# Altium schematic symbol library kmilo17pet-LT_OpAmp_LT2000.SchLib: 1710 symbols (part 47 of 75)
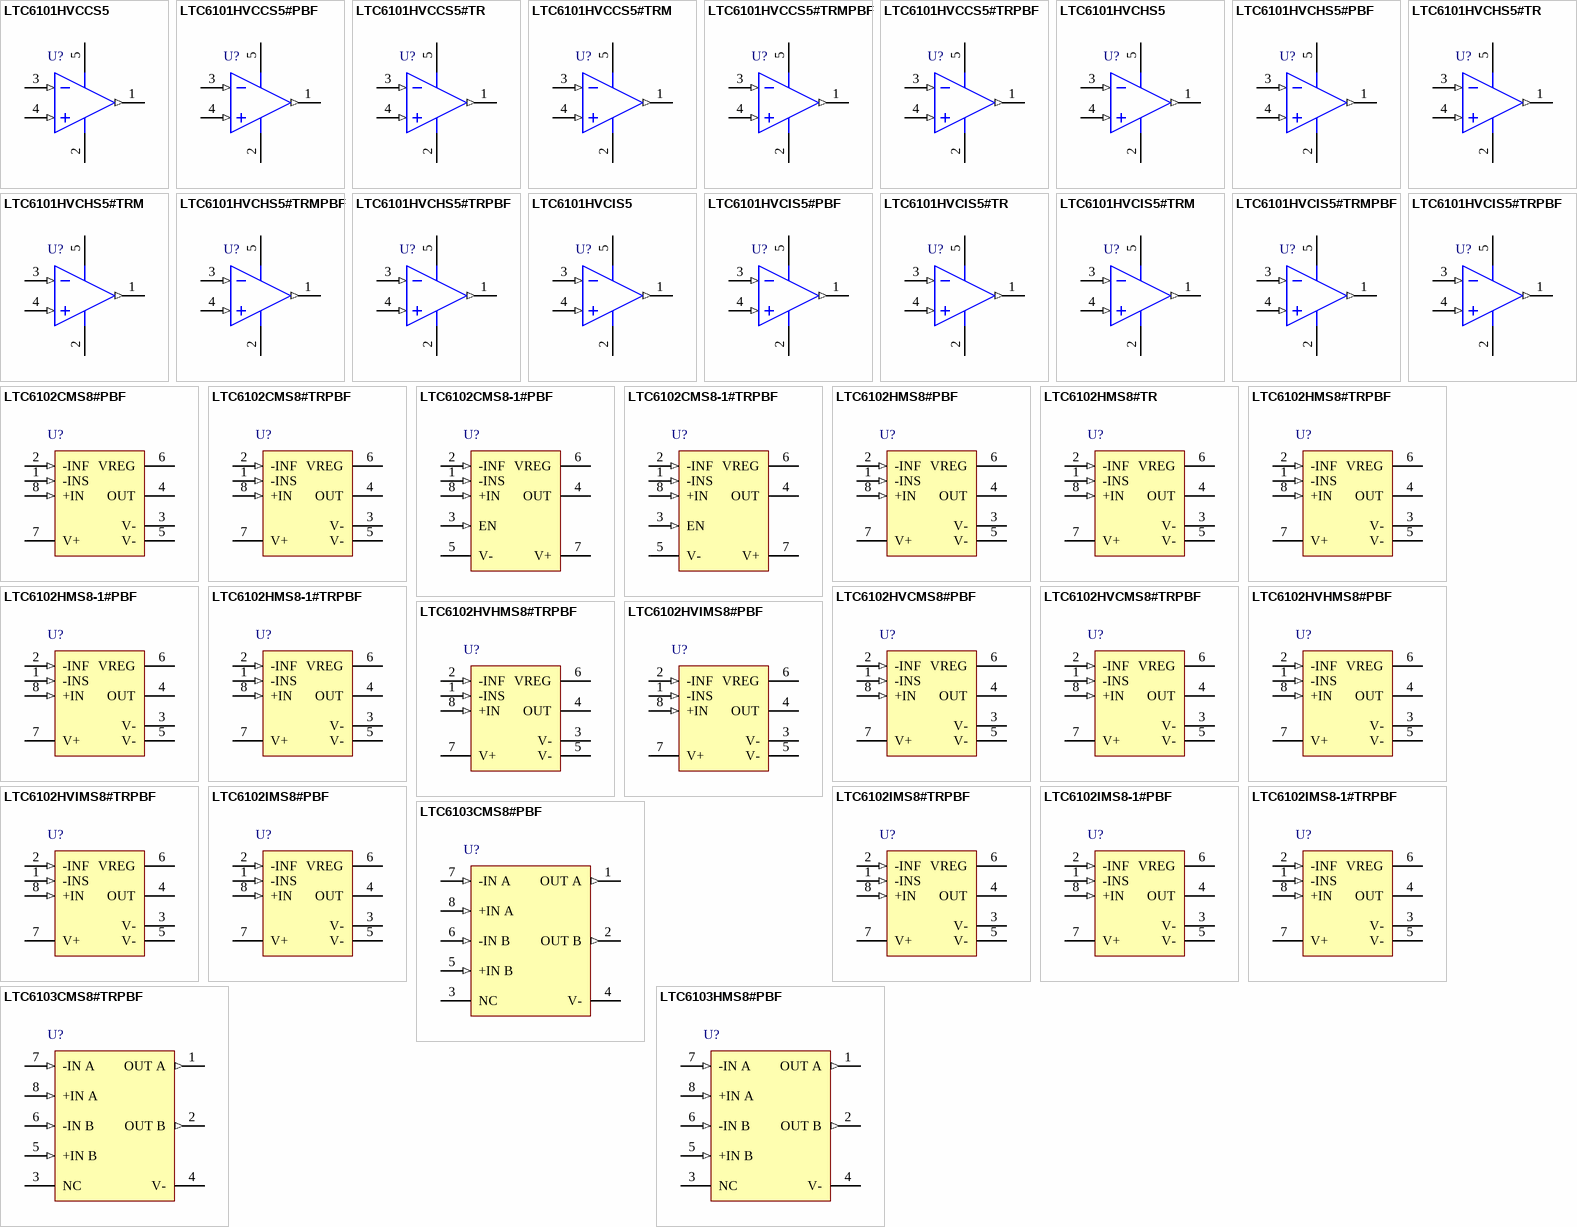
[diagram p126: symbols LTC6101HVCCS5 to LTC6103HMS8#PBF]

## LTC6102HVHMS8#PBF
designator U?
Single Channel, Precision, Zero Drift Current Sense Operational Amplifier, 0.14 MHz Typical GBW, 4 to 60 V, 8-Pin SOP (MS8-8), High Temperature / Automotive, Pb-Free; Linear Technology Part Number: LTC6102HV; Manufacturer: Linear Technology; PartNumber: LTC6102HVHMS8#PBF; Channels (#): 1; GBW (MHz) Typical: 0.14; Is (mA) Typical: 0.275; Vos (mV) Typical: 0.003; Vs Max (V): 60; Vs Min (V): 4; DatasheetVersion: Rev. D; PackageVersion: Rev G; PackageReference: LT-MS8-8; PackageDescription: 8-Lead Plastic Small Outline, Body 3.9 x 4.9 mm, Pitch 1.27 mm; Supplier 1: Digi-Key; Supplier Part Number 1: LTC6102HVHMS8#PBF-ND; Supplier 2: Newark; Supplier Part Number 2: 56M9938; RoHS: Pb-Free; Type: CSA; Mounting Technology: Surface Mount; ComponentLink1Description: Manufacturer URL; ComponentLink1URL: http://www.linear.com/; ComponentLink2Description: Datasheet; ComponentLink2URL: http://cds.linear.com/docs/en/datasheet/6102fd.pdf; ComponentLink3Description: Package Specification; ComponentLink3URL: http://cds.linear.com/docs/en/packaging/05081610_G_SO8.pdf
footprint LT-MS8-8_N (SOP, 8-Leads, Body 3x3mm, Pitch 0.65mm, IPC Medium Density)
footprint LT-MS8-8_L (SOP, 8-Leads, Body 3x3mm, Pitch 0.65mm, IPC High Density)
footprint LT-MS8-8_M (SOP, 8-Leads, Body 3x3mm, Pitch 0.65mm, IPC Low Density)
pins: 1 -INS (in) "Ampli? er Inverting Input. When tied to -INF, the internal sense ampli? er will drive -INS to the same potential as +IN.", 2 -INF (in) "Force Input. This pin carries the input current from RIN and must be tied to -INS near RIN. A resistor (RIN) tied from V+ to -INF sets the output current IOUT = VSENSE/RIN. VSENSE is the voltage across the external RSENSE.", 3 V- (power) "Negative Supply.", 4 OUT (oc) "Open-Drain Current output. OUT will source a current that is proportional to the sense voltage into an external resistor. IOUT is the same current that enters -INF", 5 V- (power) "Negative Supply", 6 VREG (power) "Internal Regulated Supply. A 0.1uF (or larger) capacitor should be tied from VREG to V+. VREG is not designed to drive external circuits.", 7 V+ (power) "Positive Supply. Supply current is drawn through this pin.", 8 +IN (in) "Ampli?er Noninverting Input. Must be tied to the system load end of the sense resistor. The +IN pin has an internal 5k series resistor designed to allow large input voltage transients or accidental disconnection of the sense (See Datasheet)"

## LTC6102HVHMS8#TRPBF
designator U?
Single Channel, Precision, Zero Drift Current Sense Operational Amplifier, 0.14 MHz Typical GBW, 4 to 60 V, 8-Pin SOP (MS8-8), High Temperature / Automotive, Pb-Free, Reel; Linear Technology Part Number: LTC6102HV; Manufacturer: Linear Technology; PartNumber: LTC6102HVHMS8#TRPBF; Channels (#): 1; GBW (MHz) Typical: 0.14; Is (mA) Typical: 0.275; Vos (mV) Typical: 0.003; Vs Max (V): 60; Vs Min (V): 4; DatasheetVersion: Rev. D; PackageVersion: Rev G; PackageReference: LT-MS8-8; PackageDescription: 8-Lead Plastic Small Outline, Body 3.9 x 4.9 mm, Pitch 1.27 mm; Supplier 1: Digi-Key; Supplier Part Number 1: LTC6102HVHMS8#TRPBF-ND; Supplier 2: Newark; Supplier Part Number 2: 56M9939; Packing: Reel; RoHS: Pb-Free; Type: CSA; Mounting Technology: Surface Mount; ComponentLink1Description: Manufacturer URL; ComponentLink1URL: http://www.linear.com/; ComponentLink2Description: Datasheet; ComponentLink2URL: http://cds.linear.com/docs/en/datasheet/6102fd.pdf; ComponentLink3Description: Package Specification; ComponentLink3URL: http://cds.linear.com/docs/en/packaging/05081610_G_SO8.pdf
footprint LT-MS8-8_N (SOP, 8-Leads, Body 3x3mm, Pitch 0.65mm, IPC Medium Density)
footprint LT-MS8-8_L (SOP, 8-Leads, Body 3x3mm, Pitch 0.65mm, IPC High Density)
footprint LT-MS8-8_M (SOP, 8-Leads, Body 3x3mm, Pitch 0.65mm, IPC Low Density)
pins: 1 -INS (in) "Ampli? er Inverting Input. When tied to -INF, the internal sense ampli? er will drive -INS to the same potential as +IN.", 2 -INF (in) "Force Input. This pin carries the input current from RIN and must be tied to -INS near RIN. A resistor (RIN) tied from V+ to -INF sets the output current IOUT = VSENSE/RIN. VSENSE is the voltage across the external RSENSE.", 3 V- (power) "Negative Supply.", 4 OUT (oc) "Open-Drain Current output. OUT will source a current that is proportional to the sense voltage into an external resistor. IOUT is the same current that enters -INF", 5 V- (power) "Negative Supply", 6 VREG (power) "Internal Regulated Supply. A 0.1uF (or larger) capacitor should be tied from VREG to V+. VREG is not designed to drive external circuits.", 7 V+ (power) "Positive Supply. Supply current is drawn through this pin.", 8 +IN (in) "Ampli?er Noninverting Input. Must be tied to the system load end of the sense resistor. The +IN pin has an internal 5k series resistor designed to allow large input voltage transients or accidental disconnection of the sense (See Datasheet)"

## LTC6102HVIMS8#PBF
designator U?
Single Channel, Precision, Zero Drift Current Sense Operational Amplifier, 0.14 MHz Typical GBW, 4 to 60 V, 8-Pin SOP (MS8-8), Industrial, Pb-Free; Linear Technology Part Number: LTC6102HV; Manufacturer: Linear Technology; PartNumber: LTC6102HVIMS8#PBF; Channels (#): 1; GBW (MHz) Typical: 0.14; Is (mA) Typical: 0.275; Vos (mV) Typical: 0.003; Vs Max (V): 60; Vs Min (V): 4; DatasheetVersion: Rev. D; PackageVersion: Rev G; PackageReference: LT-MS8-8; PackageDescription: 8-Lead Plastic Small Outline, Body 3.9 x 4.9 mm, Pitch 1.27 mm; Supplier 1: Digi-Key; Supplier Part Number 1: LTC6102HVIMS8#PBF-ND; Supplier 2: Farnell; Supplier Part Number 2: 1432115; Supplier 3: Newark; Supplier Part Number 3: 56M9942; RoHS: Pb-Free; Type: CSA; Mounting Technology: Surface Mount; ComponentLink1Description: Manufacturer URL; ComponentLink1URL: http://www.linear.com/; ComponentLink2Description: Datasheet; ComponentLink2URL: http://cds.linear.com/docs/en/datasheet/6102fd.pdf; ComponentLink3Description: Package Specification; ComponentLink3URL: http://cds.linear.com/docs/en/packaging/05081610_G_SO8.pdf
footprint LT-MS8-8_N (SOP, 8-Leads, Body 3x3mm, Pitch 0.65mm, IPC Medium Density)
footprint LT-MS8-8_L (SOP, 8-Leads, Body 3x3mm, Pitch 0.65mm, IPC High Density)
footprint LT-MS8-8_M (SOP, 8-Leads, Body 3x3mm, Pitch 0.65mm, IPC Low Density)
pins: 1 -INS (in) "Ampli? er Inverting Input. When tied to -INF, the internal sense ampli? er will drive -INS to the same potential as +IN.", 2 -INF (in) "Force Input. This pin carries the input current from RIN and must be tied to -INS near RIN. A resistor (RIN) tied from V+ to -INF sets the output current IOUT = VSENSE/RIN. VSENSE is the voltage across the external RSENSE.", 3 V- (power) "Negative Supply.", 4 OUT (oc) "Open-Drain Current output. OUT will source a current that is proportional to the sense voltage into an external resistor. IOUT is the same current that enters -INF", 5 V- (power) "Negative Supply", 6 VREG (power) "Internal Regulated Supply. A 0.1uF (or larger) capacitor should be tied from VREG to V+. VREG is not designed to drive external circuits.", 7 V+ (power) "Positive Supply. Supply current is drawn through this pin.", 8 +IN (in) "Ampli?er Noninverting Input. Must be tied to the system load end of the sense resistor. The +IN pin has an internal 5k series resistor designed to allow large input voltage transients or accidental disconnection of the sense (See Datasheet)"

## LTC6102HVIMS8#TRPBF
designator U?
Single Channel, Precision, Zero Drift Current Sense Operational Amplifier, 0.14 MHz Typical GBW, 4 to 60 V, 8-Pin SOP (MS8-8), Industrial, Pb-Free, Reel; Linear Technology Part Number: LTC6102HV; Manufacturer: Linear Technology; PartNumber: LTC6102HVIMS8#TRPBF; Channels (#): 1; GBW (MHz) Typical: 0.14; Is (mA) Typical: 0.275; Vos (mV) Typical: 0.003; Vs Max (V): 60; Vs Min (V): 4; DatasheetVersion: Rev. D; PackageVersion: Rev G; PackageReference: LT-MS8-8; PackageDescription: 8-Lead Plastic Small Outline, Body 3.9 x 4.9 mm, Pitch 1.27 mm; Supplier 1: Digi-Key; Supplier Part Number 1: LTC6102HVIMS8#TRPBF-ND; Packing: Reel; RoHS: Pb-Free; Type: CSA; Mounting Technology: Surface Mount; ComponentLink1Description: Manufacturer URL; ComponentLink1URL: http://www.linear.com/; ComponentLink2Description: Datasheet; ComponentLink2URL: http://cds.linear.com/docs/en/datasheet/6102fd.pdf; ComponentLink3Description: Package Specification; ComponentLink3URL: http://cds.linear.com/docs/en/packaging/05081610_G_SO8.pdf
footprint LT-MS8-8_N (SOP, 8-Leads, Body 3x3mm, Pitch 0.65mm, IPC Medium Density)
footprint LT-MS8-8_L (SOP, 8-Leads, Body 3x3mm, Pitch 0.65mm, IPC High Density)
footprint LT-MS8-8_M (SOP, 8-Leads, Body 3x3mm, Pitch 0.65mm, IPC Low Density)
pins: 1 -INS (in) "Ampli? er Inverting Input. When tied to -INF, the internal sense ampli? er will drive -INS to the same potential as +IN.", 2 -INF (in) "Force Input. This pin carries the input current from RIN and must be tied to -INS near RIN. A resistor (RIN) tied from V+ to -INF sets the output current IOUT = VSENSE/RIN. VSENSE is the voltage across the external RSENSE.", 3 V- (power) "Negative Supply.", 4 OUT (oc) "Open-Drain Current output. OUT will source a current that is proportional to the sense voltage into an external resistor. IOUT is the same current that enters -INF", 5 V- (power) "Negative Supply", 6 VREG (power) "Internal Regulated Supply. A 0.1uF (or larger) capacitor should be tied from VREG to V+. VREG is not designed to drive external circuits.", 7 V+ (power) "Positive Supply. Supply current is drawn through this pin.", 8 +IN (in) "Ampli?er Noninverting Input. Must be tied to the system load end of the sense resistor. The +IN pin has an internal 5k series resistor designed to allow large input voltage transients or accidental disconnection of the sense (See Datasheet)"

## LTC6102IMS8#PBF
designator U?
Single Channel, Precision, Zero Drift Current Sense Operational Amplifier, 0.14 MHz Typical GBW, 4 to 60 V, 8-Pin SOP (MS8-8), Industrial, Pb-Free; Linear Technology Part Number: LTC6102; Manufacturer: Linear Technology; PartNumber: LTC6102IMS8#PBF; Channels (#): 1; GBW (MHz) Typical: 0.14; Is (mA) Typical: 0.275; Vos (mV) Typical: 0.003; Vs Max (V): 60; Vs Min (V): 4; DatasheetVersion: Rev. D; PackageVersion: Rev G; PackageReference: LT-MS8-8; PackageDescription: 8-Lead Plastic Small Outline, Body 3.9 x 4.9 mm, Pitch 1.27 mm; Supplier 1: Digi-Key; Supplier Part Number 1: LTC6102IMS8#PBF-ND; Supplier 2: Farnell; Supplier Part Number 2: 1417726; Supplier 3: Newark; Supplier Part Number 3: 56M9946; RoHS: Pb-Free; Type: CSA; Mounting Technology: Surface Mount; ComponentLink1Description: Manufacturer URL; ComponentLink1URL: http://www.linear.com/; ComponentLink2Description: Datasheet; ComponentLink2URL: http://cds.linear.com/docs/en/datasheet/6102fd.pdf; ComponentLink3Description: Package Specification; ComponentLink3URL: http://cds.linear.com/docs/en/packaging/05081610_G_SO8.pdf
footprint LT-MS8-8_N (SOP, 8-Leads, Body 3x3mm, Pitch 0.65mm, IPC Medium Density)
footprint LT-MS8-8_L (SOP, 8-Leads, Body 3x3mm, Pitch 0.65mm, IPC High Density)
footprint LT-MS8-8_M (SOP, 8-Leads, Body 3x3mm, Pitch 0.65mm, IPC Low Density)
pins: 1 -INS (in) "Ampli? er Inverting Input. When tied to -INF, the internal sense ampli? er will drive -INS to the same potential as +IN.", 2 -INF (in) "Force Input. This pin carries the input current from RIN and must be tied to -INS near RIN. A resistor (RIN) tied from V+ to -INF sets the output current IOUT = VSENSE/RIN. VSENSE is the voltage across the external RSENSE.", 3 V- (power) "Negative Supply.", 4 OUT (oc) "Open-Drain Current output. OUT will source a current that is proportional to the sense voltage into an external resistor. IOUT is the same current that enters -INF", 5 V- (power) "Negative Supply", 6 VREG (power) "Internal Regulated Supply. A 0.1uF (or larger) capacitor should be tied from VREG to V+. VREG is not designed to drive external circuits.", 7 V+ (power) "Positive Supply. Supply current is drawn through this pin.", 8 +IN (in) "Ampli?er Noninverting Input. Must be tied to the system load end of the sense resistor. The +IN pin has an internal 5k series resistor designed to allow large input voltage transients or accidental disconnection of the sense (See Datasheet)"

## LTC6102IMS8#TRPBF
designator U?
Single Channel, Precision, Zero Drift Current Sense Operational Amplifier, 0.14 MHz Typical GBW, 4 to 60 V, 8-Pin SOP (MS8-8), Industrial, Pb-Free, Reel; Linear Technology Part Number: LTC6102; Manufacturer: Linear Technology; PartNumber: LTC6102IMS8#TRPBF; Channels (#): 1; GBW (MHz) Typical: 0.14; Is (mA) Typical: 0.275; Vos (mV) Typical: 0.003; Vs Max (V): 60; Vs Min (V): 4; DatasheetVersion: Rev. D; PackageVersion: Rev G; PackageReference: LT-MS8-8; PackageDescription: 8-Lead Plastic Small Outline, Body 3.9 x 4.9 mm, Pitch 1.27 mm; Supplier 1: Digi-Key; Supplier Part Number 1: LTC6102IMS8#TRPBF-ND; Supplier 2: Newark; Supplier Part Number 2: 56M9947; Packing: Reel; RoHS: Pb-Free; Type: CSA; Mounting Technology: Surface Mount; ComponentLink1Description: Manufacturer URL; ComponentLink1URL: http://www.linear.com/; ComponentLink2Description: Datasheet; ComponentLink2URL: http://cds.linear.com/docs/en/datasheet/6102fd.pdf; ComponentLink3Description: Package Specification; ComponentLink3URL: http://cds.linear.com/docs/en/packaging/05081610_G_SO8.pdf
footprint LT-MS8-8_N (SOP, 8-Leads, Body 3x3mm, Pitch 0.65mm, IPC Medium Density)
footprint LT-MS8-8_L (SOP, 8-Leads, Body 3x3mm, Pitch 0.65mm, IPC High Density)
footprint LT-MS8-8_M (SOP, 8-Leads, Body 3x3mm, Pitch 0.65mm, IPC Low Density)
pins: 1 -INS (in) "Ampli? er Inverting Input. When tied to -INF, the internal sense ampli? er will drive -INS to the same potential as +IN.", 2 -INF (in) "Force Input. This pin carries the input current from RIN and must be tied to -INS near RIN. A resistor (RIN) tied from V+ to -INF sets the output current IOUT = VSENSE/RIN. VSENSE is the voltage across the external RSENSE.", 3 V- (power) "Negative Supply.", 4 OUT (oc) "Open-Drain Current output. OUT will source a current that is proportional to the sense voltage into an external resistor. IOUT is the same current that enters -INF", 5 V- (power) "Negative Supply", 6 VREG (power) "Internal Regulated Supply. A 0.1uF (or larger) capacitor should be tied from VREG to V+. VREG is not designed to drive external circuits.", 7 V+ (power) "Positive Supply. Supply current is drawn through this pin.", 8 +IN (in) "Ampli?er Noninverting Input. Must be tied to the system load end of the sense resistor. The +IN pin has an internal 5k series resistor designed to allow large input voltage transients or accidental disconnection of the sense (See Datasheet)"

## LTC6102IMS8-1#PBF
designator U?
Single Channel, Precision, Zero Drift Current Sense Operational Amplifier, 0.14 MHz Typical GBW, 4 to 60 V, 8-Pin SOP (MS8-8), Industrial, Pb-Free; Linear Technology Part Number: LTC6102; Manufacturer: Linear Technology; PartNumber: LTC6102IMS8-1#PBF; Channels (#): 1; GBW (MHz) Typical: 0.14; Is (mA) Typical: 0.275; Vos (mV) Typical: 0.003; Vs Max (V): 60; Vs Min (V): 4; DatasheetVersion: Rev. D; PackageVersion: Rev G; PackageReference: LT-MS8-8; PackageDescription: 8-Lead Plastic Small Outline, Body 3.9 x 4.9 mm, Pitch 1.27 mm; Supplier 1: Digi-Key; Supplier Part Number 1: LTC6102IMS8-1#PBF-ND; Supplier 2: Farnell; Supplier Part Number 2: 1697063; Supplier 3: Newark; Supplier Part Number 3: 71P2242; RoHS: Pb-Free; Type: CSA; Mounting Technology: Surface Mount; ComponentLink1Description: Manufacturer URL; ComponentLink1URL: http://www.linear.com/; ComponentLink2Description: Datasheet; ComponentLink2URL: http://cds.linear.com/docs/en/datasheet/6102fd.pdf; ComponentLink3Description: Package Specification; ComponentLink3URL: http://cds.linear.com/docs/en/packaging/05081610_G_SO8.pdf
footprint LT-MS8-8_N (SOP, 8-Leads, Body 3x3mm, Pitch 0.65mm, IPC Medium Density)
footprint LT-MS8-8_L (SOP, 8-Leads, Body 3x3mm, Pitch 0.65mm, IPC High Density)
footprint LT-MS8-8_M (SOP, 8-Leads, Body 3x3mm, Pitch 0.65mm, IPC Low Density)
pins: 1 -INS (in) "Ampli? er Inverting Input. When tied to -INF, the internal sense ampli? er will drive -INS to the same potential as +IN.", 2 -INF (in) "Force Input. This pin carries the input current from RIN and must be tied to -INS near RIN. A resistor (RIN) tied from V+ to -INF sets the output current IOUT = VSENSE/RIN. VSENSE is the voltage across the external RSENSE.", 3 V- (power) "Negative Supply.", 4 OUT (oc) "Open-Drain Current output. OUT will source a current that is proportional to the sense voltage into an external resistor. IOUT is the same current that enters -INF", 5 V- (power) "Negative Supply", 6 VREG (power) "Internal Regulated Supply. A 0.1uF (or larger) capacitor should be tied from VREG to V+. VREG is not designed to drive external circuits.", 7 V+ (power) "Positive Supply. Supply current is drawn through this pin.", 8 +IN (in) "Ampli?er Noninverting Input. Must be tied to the system load end of the sense resistor. The +IN pin has an internal 5k series resistor designed to allow large input voltage transients or accidental disconnection of the sense (See Datasheet)"

## LTC6102IMS8-1#TRPBF
designator U?
Single Channel, Precision, Zero Drift Current Sense Operational Amplifier, 0.14 MHz Typical GBW, 4 to 60 V, 8-Pin SOP (MS8-8), Industrial, Pb-Free, Reel; Linear Technology Part Number: LTC6102; Manufacturer: Linear Technology; PartNumber: LTC6102IMS8-1#TRPBF; Channels (#): 1; GBW (MHz) Typical: 0.14; Is (mA) Typical: 0.275; Vos (mV) Typical: 0.003; Vs Max (V): 60; Vs Min (V): 4; DatasheetVersion: Rev. D; PackageVersion: Rev G; PackageReference: LT-MS8-8; PackageDescription: 8-Lead Plastic Small Outline, Body 3.9 x 4.9 mm, Pitch 1.27 mm; Supplier 1: Digi-Key; Supplier Part Number 1: LTC6102IMS8-1#TRPBF-ND; Packing: Reel; RoHS: Pb-Free; Type: CSA; Mounting Technology: Surface Mount; ComponentLink1Description: Manufacturer URL; ComponentLink1URL: http://www.linear.com/; ComponentLink2Description: Datasheet; ComponentLink2URL: http://cds.linear.com/docs/en/datasheet/6102fd.pdf; ComponentLink3Description: Package Specification; ComponentLink3URL: http://cds.linear.com/docs/en/packaging/05081610_G_SO8.pdf
footprint LT-MS8-8_N (SOP, 8-Leads, Body 3x3mm, Pitch 0.65mm, IPC Medium Density)
footprint LT-MS8-8_L (SOP, 8-Leads, Body 3x3mm, Pitch 0.65mm, IPC High Density)
footprint LT-MS8-8_M (SOP, 8-Leads, Body 3x3mm, Pitch 0.65mm, IPC Low Density)
pins: 1 -INS (in) "Ampli? er Inverting Input. When tied to -INF, the internal sense ampli? er will drive -INS to the same potential as +IN.", 2 -INF (in) "Force Input. This pin carries the input current from RIN and must be tied to -INS near RIN. A resistor (RIN) tied from V+ to -INF sets the output current IOUT = VSENSE/RIN. VSENSE is the voltage across the external RSENSE.", 3 V- (power) "Negative Supply.", 4 OUT (oc) "Open-Drain Current output. OUT will source a current that is proportional to the sense voltage into an external resistor. IOUT is the same current that enters -INF", 5 V- (power) "Negative Supply", 6 VREG (power) "Internal Regulated Supply. A 0.1uF (or larger) capacitor should be tied from VREG to V+. VREG is not designed to drive external circuits.", 7 V+ (power) "Positive Supply. Supply current is drawn through this pin.", 8 +IN (in) "Ampli?er Noninverting Input. Must be tied to the system load end of the sense resistor. The +IN pin has an internal 5k series resistor designed to allow large input voltage transients or accidental disconnection of the sense (See Datasheet)"

## LTC6103CMS8#PBF
designator U?
Dual Channel, High Voltage, High-Side Current Sense Operational Amplifier, 0.12 MHz Typical GBW, 4 to 60 V, 8-Pin SOP (MS8-8), Commercial, Pb-Free; Linear Technology Part Number: LTC6103; Manufacturer: Linear Technology; PartNumber: LTC6103CMS8#PBF; Channels (#): 2; GBW (MHz) Typical: 0.12; Is (mA) Typical: 0.275; Vos (mV) Typical: 0.085; Vs Max (V): 60; Vs Min (V): 4; PackageVersion: Rev G; PackageReference: LT-MS8-8; PackageDescription: 8-Lead Plastic Small Outline, Body 3.9 x 4.9 mm, Pitch 1.27 mm; Supplier 1: Digi-Key; Supplier Part Number 1: LTC6103CMS8#PBF-ND; Supplier 2: Farnell; Supplier Part Number 2: 1715037; RoHS: Pb-Free; Type: CSA; Mounting Technology: Surface Mount; ComponentLink1Description: Manufacturer URL; ComponentLink1URL: http://www.linear.com/; ComponentLink2Description: Datasheet; ComponentLink2URL: http://cds.linear.com/docs/en/datasheet/6103f.pdf; ComponentLink3Description: Package Specification; ComponentLink3URL: http://cds.linear.com/docs/en/packaging/05081610_G_SO8.pdf
footprint LT-MS8-8_N (SOP, 8-Leads, Body 3x3mm, Pitch 0.65mm, IPC Medium Density)
footprint LT-MS8-8_L (SOP, 8-Leads, Body 3x3mm, Pitch 0.65mm, IPC High Density)
footprint LT-MS8-8_M (SOP, 8-Leads, Body 3x3mm, Pitch 0.65mm, IPC Low Density)
pins: 1 OUT A (out) "Current Output of Amplifi er A. OUTA will source a current that is proportional to the sense voltage of amplifi er A into an external resistor.", 2 OUT B (out) "Current Output of Amplifi er B. OUTB will source a current that is proportional to the sense voltage of amplifi er B into an external resistor.", 3 NC "No Connect.", 4 V- (power) "Negative Supply (or Ground for Single Supply Operation). Common to both amplifiers.", 5 +IN B (in) "The Positive Input of the Internal Sense Amplifier B. Must be tied to the system load end of the sense resistor. It also works as the positive supply for amplifier B. Supply current of amplifier B is drawn through this pin. (See Datasheet)", 6 -IN B (in) "The Negative Input of the Internal Sense Amplifier B. The internal sense amplifier will drive -INB to the same potential as +INB. A resistor (RIN) tied from VB+ to -INB sets the output current IOUT = VSENSE/ RIN. VSENSE is (See Datasheet)", 7 -IN A (in) "The Negative Input of the Internal Sense Amplifier A. The internal sense amplifier will drive -INA to the same potential as +INA. A resistor (RIN) tied from VA+ to -INA sets the output current IOUT = VSENSE/ RIN. VSENSE is (See Datasheet)", 8 +IN A (in) "The Positive Input of the Internal Sense Amplifier A. Must be tied to the system load end of the sense resistor. It also works as the positive supply for amplifier A. Supply current of amplifier A is drawn through this pin. (See Datasheet)"

## LTC6103CMS8#TRPBF
designator U?
Dual Channel, High Voltage, High-Side Current Sense Operational Amplifier, 0.12 MHz Typical GBW, 4 to 60 V, 8-Pin SOP (MS8-8), Commercial, Pb-Free, Reel; Linear Technology Part Number: LTC6103; Manufacturer: Linear Technology; PartNumber: LTC6103CMS8#TRPBF; Channels (#): 2; GBW (MHz) Typical: 0.12; Is (mA) Typical: 0.275; Vos (mV) Typical: 0.085; Vs Max (V): 60; Vs Min (V): 4; PackageVersion: Rev G; PackageReference: LT-MS8-8; PackageDescription: 8-Lead Plastic Small Outline, Body 3.9 x 4.9 mm, Pitch 1.27 mm; Supplier 1: Digi-Key; Supplier Part Number 1: LTC6103CMS8#TRPBF-ND; Packing: Reel; RoHS: Pb-Free; Type: CSA; Mounting Technology: Surface Mount; ComponentLink1Description: Manufacturer URL; ComponentLink1URL: http://www.linear.com/; ComponentLink2Description: Datasheet; ComponentLink2URL: http://cds.linear.com/docs/en/datasheet/6103f.pdf; ComponentLink3Description: Package Specification; ComponentLink3URL: http://cds.linear.com/docs/en/packaging/05081610_G_SO8.pdf
footprint LT-MS8-8_N (SOP, 8-Leads, Body 3x3mm, Pitch 0.65mm, IPC Medium Density)
footprint LT-MS8-8_L (SOP, 8-Leads, Body 3x3mm, Pitch 0.65mm, IPC High Density)
footprint LT-MS8-8_M (SOP, 8-Leads, Body 3x3mm, Pitch 0.65mm, IPC Low Density)
pins: 1 OUT A (out) "Current Output of Amplifi er A. OUTA will source a current that is proportional to the sense voltage of amplifi er A into an external resistor.", 2 OUT B (out) "Current Output of Amplifi er B. OUTB will source a current that is proportional to the sense voltage of amplifi er B into an external resistor.", 3 NC "No Connect.", 4 V- (power) "Negative Supply (or Ground for Single Supply Operation). Common to both amplifiers.", 5 +IN B (in) "The Positive Input of the Internal Sense Amplifier B. Must be tied to the system load end of the sense resistor. It also works as the positive supply for amplifier B. Supply current of amplifier B is drawn through this pin. (See Datasheet)", 6 -IN B (in) "The Negative Input of the Internal Sense Amplifier B. The internal sense amplifier will drive -INB to the same potential as +INB. A resistor (RIN) tied from VB+ to -INB sets the output current IOUT = VSENSE/ RIN. VSENSE is (See Datasheet)", 7 -IN A (in) "The Negative Input of the Internal Sense Amplifier A. The internal sense amplifier will drive -INA to the same potential as +INA. A resistor (RIN) tied from VA+ to -INA sets the output current IOUT = VSENSE/ RIN. VSENSE is (See Datasheet)", 8 +IN A (in) "The Positive Input of the Internal Sense Amplifier A. Must be tied to the system load end of the sense resistor. It also works as the positive supply for amplifier A. Supply current of amplifier A is drawn through this pin. (See Datasheet)"

## LTC6103HMS8#PBF
designator U?
Dual Channel, High Voltage, High-Side Current Sense Operational Amplifier, 0.12 MHz Typical GBW, 4 to 60 V, 8-Pin SOP (MS8-8), High Temperature / Automotive, Pb-Free; Linear Technology Part Number: LTC6103; Manufacturer: Linear Technology; PartNumber: LTC6103HMS8#PBF; Channels (#): 2; GBW (MHz) Typical: 0.12; Is (mA) Typical: 0.275; Vos (mV) Typical: 0.085; Vs Max (V): 60; Vs Min (V): 4; PackageVersion: Rev G; PackageReference: LT-MS8-8; PackageDescription: 8-Lead Plastic Small Outline, Body 3.9 x 4.9 mm, Pitch 1.27 mm; Supplier 1: Digi-Key; Supplier Part Number 1: LTC6103HMS8#PBF-ND; Supplier 2: Farnell; Supplier Part Number 2: 1715038; Supplier 3: Newark; Supplier Part Number 3: 56M9950; RoHS: Pb-Free; Type: CSA; Mounting Technology: Surface Mount; ComponentLink1Description: Manufacturer URL; ComponentLink1URL: http://www.linear.com/; ComponentLink2Description: Datasheet; ComponentLink2URL: http://cds.linear.com/docs/en/datasheet/6103f.pdf; ComponentLink3Description: Package Specification; ComponentLink3URL: http://cds.linear.com/docs/en/packaging/05081610_G_SO8.pdf
footprint LT-MS8-8_N (SOP, 8-Leads, Body 3x3mm, Pitch 0.65mm, IPC Medium Density)
footprint LT-MS8-8_L (SOP, 8-Leads, Body 3x3mm, Pitch 0.65mm, IPC High Density)
footprint LT-MS8-8_M (SOP, 8-Leads, Body 3x3mm, Pitch 0.65mm, IPC Low Density)
pins: 1 OUT A (out) "Current Output of Amplifi er A. OUTA will source a current that is proportional to the sense voltage of amplifi er A into an external resistor.", 2 OUT B (out) "Current Output of Amplifi er B. OUTB will source a current that is proportional to the sense voltage of amplifi er B into an external resistor.", 3 NC "No Connect.", 4 V- (power) "Negative Supply (or Ground for Single Supply Operation). Common to both amplifiers.", 5 +IN B (in) "The Positive Input of the Internal Sense Amplifier B. Must be tied to the system load end of the sense resistor. It also works as the positive supply for amplifier B. Supply current of amplifier B is drawn through this pin. (See Datasheet)", 6 -IN B (in) "The Negative Input of the Internal Sense Amplifier B. The internal sense amplifier will drive -INB to the same potential as +INB. A resistor (RIN) tied from VB+ to -INB sets the output current IOUT = VSENSE/ RIN. VSENSE is (See Datasheet)", 7 -IN A (in) "The Negative Input of the Internal Sense Amplifier A. The internal sense amplifier will drive -INA to the same potential as +INA. A resistor (RIN) tied from VA+ to -INA sets the output current IOUT = VSENSE/ RIN. VSENSE is (See Datasheet)", 8 +IN A (in) "The Positive Input of the Internal Sense Amplifier A. Must be tied to the system load end of the sense resistor. It also works as the positive supply for amplifier A. Supply current of amplifier A is drawn through this pin. (See Datasheet)"

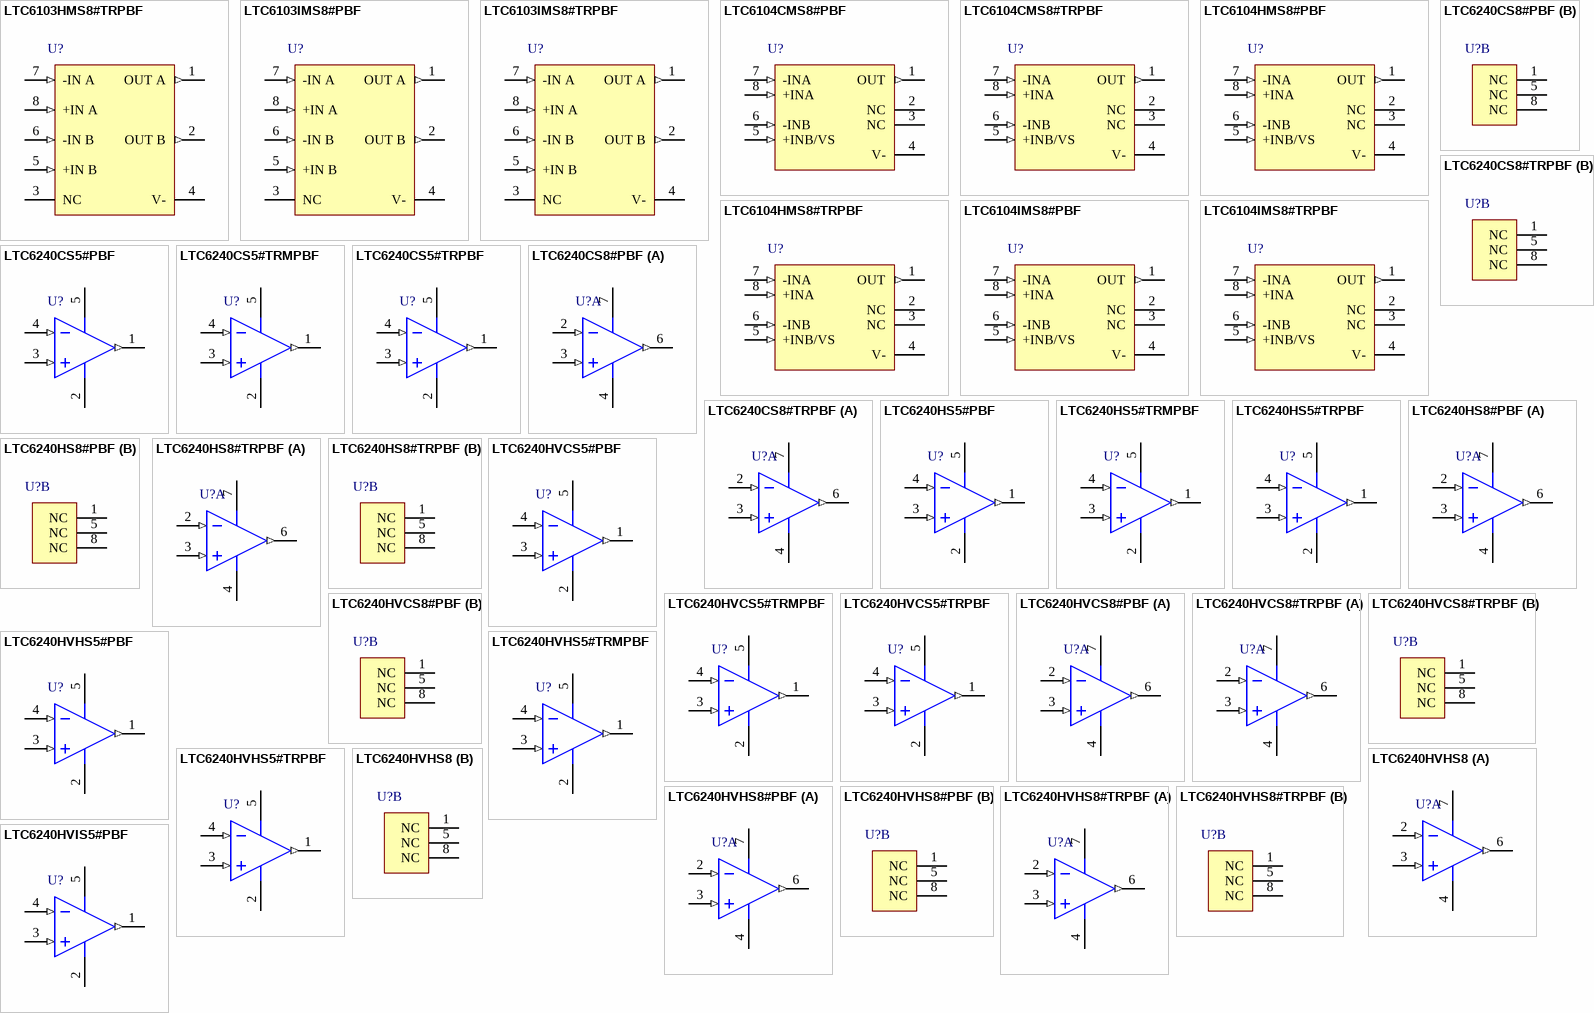
[diagram p61: symbols LTC6103HMS8#TRPBF to LTC6240HVIS5#PBF]

## LTC6103HMS8#TRPBF
designator U?
Dual Channel, High Voltage, High-Side Current Sense Operational Amplifier, 0.12 MHz Typical GBW, 4 to 60 V, 8-Pin SOP (MS8-8), High Temperature / Automotive, Pb-Free, Reel; Linear Technology Part Number: LTC6103; Manufacturer: Linear Technology; PartNumber: LTC6103HMS8#TRPBF; Channels (#): 2; GBW (MHz) Typical: 0.12; Is (mA) Typical: 0.275; Vos (mV) Typical: 0.085; Vs Max (V): 60; Vs Min (V): 4; PackageVersion: Rev G; PackageReference: LT-MS8-8; PackageDescription: 8-Lead Plastic Small Outline, Body 3.9 x 4.9 mm, Pitch 1.27 mm; Supplier 1: Digi-Key; Supplier Part Number 1: LTC6103HMS8#TRPBF-ND; Packing: Reel; RoHS: Pb-Free; Type: CSA; Mounting Technology: Surface Mount; ComponentLink1Description: Manufacturer URL; ComponentLink1URL: http://www.linear.com/; ComponentLink2Description: Datasheet; ComponentLink2URL: http://cds.linear.com/docs/en/datasheet/6103f.pdf; ComponentLink3Description: Package Specification; ComponentLink3URL: http://cds.linear.com/docs/en/packaging/05081610_G_SO8.pdf
footprint LT-MS8-8_N (SOP, 8-Leads, Body 3x3mm, Pitch 0.65mm, IPC Medium Density)
footprint LT-MS8-8_L (SOP, 8-Leads, Body 3x3mm, Pitch 0.65mm, IPC High Density)
footprint LT-MS8-8_M (SOP, 8-Leads, Body 3x3mm, Pitch 0.65mm, IPC Low Density)
pins: 1 OUT A (out) "Current Output of Amplifi er A. OUTA will source a current that is proportional to the sense voltage of amplifi er A into an external resistor.", 2 OUT B (out) "Current Output of Amplifi er B. OUTB will source a current that is proportional to the sense voltage of amplifi er B into an external resistor.", 3 NC "No Connect.", 4 V- (power) "Negative Supply (or Ground for Single Supply Operation). Common to both amplifiers.", 5 +IN B (in) "The Positive Input of the Internal Sense Amplifier B. Must be tied to the system load end of the sense resistor. It also works as the positive supply for amplifier B. Supply current of amplifier B is drawn through this pin. (See Datasheet)", 6 -IN B (in) "The Negative Input of the Internal Sense Amplifier B. The internal sense amplifier will drive -INB to the same potential as +INB. A resistor (RIN) tied from VB+ to -INB sets the output current IOUT = VSENSE/ RIN. VSENSE is (See Datasheet)", 7 -IN A (in) "The Negative Input of the Internal Sense Amplifier A. The internal sense amplifier will drive -INA to the same potential as +INA. A resistor (RIN) tied from VA+ to -INA sets the output current IOUT = VSENSE/ RIN. VSENSE is (See Datasheet)", 8 +IN A (in) "The Positive Input of the Internal Sense Amplifier A. Must be tied to the system load end of the sense resistor. It also works as the positive supply for amplifier A. Supply current of amplifier A is drawn through this pin. (See Datasheet)"

## LTC6103IMS8#PBF
designator U?
Dual Channel, High Voltage, High-Side Current Sense Operational Amplifier, 0.12 MHz Typical GBW, 4 to 60 V, 8-Pin SOP (MS8-8), Industrial, Pb-Free; Linear Technology Part Number: LTC6103; Manufacturer: Linear Technology; PartNumber: LTC6103IMS8#PBF; Channels (#): 2; GBW (MHz) Typical: 0.12; Is (mA) Typical: 0.275; Vos (mV) Typical: 0.085; Vs Max (V): 60; Vs Min (V): 4; PackageVersion: Rev G; PackageReference: LT-MS8-8; PackageDescription: 8-Lead Plastic Small Outline, Body 3.9 x 4.9 mm, Pitch 1.27 mm; Supplier 1: Digi-Key; Supplier Part Number 1: LTC6103IMS8#PBF-ND; Supplier 2: Farnell; Supplier Part Number 2: 1432116; Supplier 3: Newark; Supplier Part Number 3: 56M9952; RoHS: Pb-Free; Type: CSA; Mounting Technology: Surface Mount; ComponentLink1Description: Manufacturer URL; ComponentLink1URL: http://www.linear.com/; ComponentLink2Description: Datasheet; ComponentLink2URL: http://cds.linear.com/docs/en/datasheet/6103f.pdf; ComponentLink3Description: Package Specification; ComponentLink3URL: http://cds.linear.com/docs/en/packaging/05081610_G_SO8.pdf
footprint LT-MS8-8_N (SOP, 8-Leads, Body 3x3mm, Pitch 0.65mm, IPC Medium Density)
footprint LT-MS8-8_L (SOP, 8-Leads, Body 3x3mm, Pitch 0.65mm, IPC High Density)
footprint LT-MS8-8_M (SOP, 8-Leads, Body 3x3mm, Pitch 0.65mm, IPC Low Density)
pins: 1 OUT A (out) "Current Output of Amplifi er A. OUTA will source a current that is proportional to the sense voltage of amplifi er A into an external resistor.", 2 OUT B (out) "Current Output of Amplifi er B. OUTB will source a current that is proportional to the sense voltage of amplifi er B into an external resistor.", 3 NC "No Connect.", 4 V- (power) "Negative Supply (or Ground for Single Supply Operation). Common to both amplifiers.", 5 +IN B (in) "The Positive Input of the Internal Sense Amplifier B. Must be tied to the system load end of the sense resistor. It also works as the positive supply for amplifier B. Supply current of amplifier B is drawn through this pin. (See Datasheet)", 6 -IN B (in) "The Negative Input of the Internal Sense Amplifier B. The internal sense amplifier will drive -INB to the same potential as +INB. A resistor (RIN) tied from VB+ to -INB sets the output current IOUT = VSENSE/ RIN. VSENSE is (See Datasheet)", 7 -IN A (in) "The Negative Input of the Internal Sense Amplifier A. The internal sense amplifier will drive -INA to the same potential as +INA. A resistor (RIN) tied from VA+ to -INA sets the output current IOUT = VSENSE/ RIN. VSENSE is (See Datasheet)", 8 +IN A (in) "The Positive Input of the Internal Sense Amplifier A. Must be tied to the system load end of the sense resistor. It also works as the positive supply for amplifier A. Supply current of amplifier A is drawn through this pin. (See Datasheet)"

## LTC6103IMS8#TRPBF
designator U?
Dual Channel, High Voltage, High-Side Current Sense Operational Amplifier, 0.12 MHz Typical GBW, 4 to 60 V, 8-Pin SOP (MS8-8), Industrial, Pb-Free, Reel; Linear Technology Part Number: LTC6103; Manufacturer: Linear Technology; PartNumber: LTC6103IMS8#TRPBF; Channels (#): 2; GBW (MHz) Typical: 0.12; Is (mA) Typical: 0.275; Vos (mV) Typical: 0.085; Vs Max (V): 60; Vs Min (V): 4; PackageVersion: Rev G; PackageReference: LT-MS8-8; PackageDescription: 8-Lead Plastic Small Outline, Body 3.9 x 4.9 mm, Pitch 1.27 mm; Supplier 1: Digi-Key; Supplier Part Number 1: LTC6103IMS8#TRPBF-ND; Packing: Reel; RoHS: Pb-Free; Type: CSA; Mounting Technology: Surface Mount; ComponentLink1Description: Manufacturer URL; ComponentLink1URL: http://www.linear.com/; ComponentLink2Description: Datasheet; ComponentLink2URL: http://cds.linear.com/docs/en/datasheet/6103f.pdf; ComponentLink3Description: Package Specification; ComponentLink3URL: http://cds.linear.com/docs/en/packaging/05081610_G_SO8.pdf
footprint LT-MS8-8_N (SOP, 8-Leads, Body 3x3mm, Pitch 0.65mm, IPC Medium Density)
footprint LT-MS8-8_L (SOP, 8-Leads, Body 3x3mm, Pitch 0.65mm, IPC High Density)
footprint LT-MS8-8_M (SOP, 8-Leads, Body 3x3mm, Pitch 0.65mm, IPC Low Density)
pins: 1 OUT A (out) "Current Output of Amplifi er A. OUTA will source a current that is proportional to the sense voltage of amplifi er A into an external resistor.", 2 OUT B (out) "Current Output of Amplifi er B. OUTB will source a current that is proportional to the sense voltage of amplifi er B into an external resistor.", 3 NC "No Connect.", 4 V- (power) "Negative Supply (or Ground for Single Supply Operation). Common to both amplifiers.", 5 +IN B (in) "The Positive Input of the Internal Sense Amplifier B. Must be tied to the system load end of the sense resistor. It also works as the positive supply for amplifier B. Supply current of amplifier B is drawn through this pin. (See Datasheet)", 6 -IN B (in) "The Negative Input of the Internal Sense Amplifier B. The internal sense amplifier will drive -INB to the same potential as +INB. A resistor (RIN) tied from VB+ to -INB sets the output current IOUT = VSENSE/ RIN. VSENSE is (See Datasheet)", 7 -IN A (in) "The Negative Input of the Internal Sense Amplifier A. The internal sense amplifier will drive -INA to the same potential as +INA. A resistor (RIN) tied from VA+ to -INA sets the output current IOUT = VSENSE/ RIN. VSENSE is (See Datasheet)", 8 +IN A (in) "The Positive Input of the Internal Sense Amplifier A. Must be tied to the system load end of the sense resistor. It also works as the positive supply for amplifier A. Supply current of amplifier A is drawn through this pin. (See Datasheet)"

## LTC6104CMS8#PBF
designator U?
Single Channel, High Voltage, High Side, Bi-Directional Current Sense Operational Amplifier, 0.14 MHz Typical GBW, 4 to 60 V, 8-Pin SOP (MS8-8), Commercial, Pb-Free; Linear Technology Part Number: LTC6104; Manufacturer: Linear Technology; PartNumber: LTC6104CMS8#PBF; Channels (#): 1; GBW (MHz) Typical: 0.14; Is (mA) Typical: 0.45; Vos (mV) Typical: 0.085; Vs Max (V): 60; Vs Min (V): 4; PackageVersion: Rev G; PackageReference: LT-MS8-8; PackageDescription: 8-Lead Plastic Small Outline, Body 3.9 x 4.9 mm, Pitch 1.27 mm; Supplier 1: Digi-Key; Supplier Part Number 1: LTC6104CMS8#PBF-ND; Supplier 2: Farnell; Supplier Part Number 2: 1417728; Supplier 3: Newark; Supplier Part Number 3: 56M9954; RoHS: Pb-Free; Type: CSA; Mounting Technology: Surface Mount; ComponentLink1Description: Manufacturer URL; ComponentLink1URL: http://www.linear.com/; ComponentLink2Description: Datasheet; ComponentLink2URL: http://cds.linear.com/docs/en/datasheet/6104f.pdf; ComponentLink3Description: Package Specification; ComponentLink3URL: http://cds.linear.com/docs/en/packaging/05081610_G_SO8.pdf
footprint LT-MS8-8_N (SOP, 8-Leads, Body 3x3mm, Pitch 0.65mm, IPC Medium Density)
footprint LT-MS8-8_L (SOP, 8-Leads, Body 3x3mm, Pitch 0.65mm, IPC High Density)
footprint LT-MS8-8_M (SOP, 8-Leads, Body 3x3mm, Pitch 0.65mm, IPC Low Density)
pins: 1 OUT (out) "Current Output. OUT will source or sink a current that is proportional to the sense voltage into an external resistor. A voltage reference is required to provide the proper positive offset voltage so that the output can (See Datasheet)", 2 NC, 3 NC, 4 V- (power) "Negative Supply (or Ground for Single-Supply Operation).", 5 +INB/VS (in) "The positive input of the internal sense amplifi er B. It also works as the positive supply input. Supply current is drawn through this pin", 6 -INB (in) "The negative input of the internal sense amplifi er B. The internal sense amplifi er will drive -INB to the same potential as +INB when VSENSE is negative.", 7 -INA (in) "The negative input of the internal sense amplifi er A. The internal sense amplifi er will drive -INA to the same potential as +INA when VSENSE is positive. A resistor (RIN) tied from one end of RSENSE to -INA sets the output (See Datasheet)", 8 +INA (in) "The positive input of the internal sense amplifi er A."

## LTC6104CMS8#TRPBF
designator U?
Single Channel, High Voltage, High Side, Bi-Directional Current Sense Operational Amplifier, 0.14 MHz Typical GBW, 4 to 60 V, 8-Pin SOP (MS8-8), Commercial, Pb-Free, Reel; Linear Technology Part Number: LTC6104; Manufacturer: Linear Technology; PartNumber: LTC6104CMS8#TRPBF; Channels (#): 1; GBW (MHz) Typical: 0.14; Is (mA) Typical: 0.45; Vos (mV) Typical: 0.085; Vs Max (V): 60; Vs Min (V): 4; PackageVersion: Rev G; PackageReference: LT-MS8-8; PackageDescription: 8-Lead Plastic Small Outline, Body 3.9 x 4.9 mm, Pitch 1.27 mm; Supplier 1: Digi-Key; Supplier Part Number 1: LTC6104CMS8#TRPBF-ND; Packing: Reel; RoHS: Pb-Free; Type: CSA; Mounting Technology: Surface Mount; ComponentLink1Description: Manufacturer URL; ComponentLink1URL: http://www.linear.com/; ComponentLink2Description: Datasheet; ComponentLink2URL: http://cds.linear.com/docs/en/datasheet/6104f.pdf; ComponentLink3Description: Package Specification; ComponentLink3URL: http://cds.linear.com/docs/en/packaging/05081610_G_SO8.pdf
footprint LT-MS8-8_N (SOP, 8-Leads, Body 3x3mm, Pitch 0.65mm, IPC Medium Density)
footprint LT-MS8-8_L (SOP, 8-Leads, Body 3x3mm, Pitch 0.65mm, IPC High Density)
footprint LT-MS8-8_M (SOP, 8-Leads, Body 3x3mm, Pitch 0.65mm, IPC Low Density)
pins: 1 OUT (out) "Current Output. OUT will source or sink a current that is proportional to the sense voltage into an external resistor. A voltage reference is required to provide the proper positive offset voltage so that the output can (See Datasheet)", 2 NC, 3 NC, 4 V- (power) "Negative Supply (or Ground for Single-Supply Operation).", 5 +INB/VS (in) "The positive input of the internal sense amplifi er B. It also works as the positive supply input. Supply current is drawn through this pin", 6 -INB (in) "The negative input of the internal sense amplifi er B. The internal sense amplifi er will drive -INB to the same potential as +INB when VSENSE is negative.", 7 -INA (in) "The negative input of the internal sense amplifi er A. The internal sense amplifi er will drive -INA to the same potential as +INA when VSENSE is positive. A resistor (RIN) tied from one end of RSENSE to -INA sets the output (See Datasheet)", 8 +INA (in) "The positive input of the internal sense amplifi er A."

## LTC6104HMS8#PBF
designator U?
Single Channel, High Voltage, High Side, Bi-Directional Current Sense Operational Amplifier, 0.14 MHz Typical GBW, 4 to 60 V, 8-Pin SOP (MS8-8), High Temperature / Automotive, Pb-Free; Linear Technology Part Number: LTC6104; Manufacturer: Linear Technology; PartNumber: LTC6104HMS8#PBF; Channels (#): 1; GBW (MHz) Typical: 0.14; Is (mA) Typical: 0.45; Vos (mV) Typical: 0.085; Vs Max (V): 60; Vs Min (V): 4; PackageVersion: Rev G; PackageReference: LT-MS8-8; PackageDescription: 8-Lead Plastic Small Outline, Body 3.9 x 4.9 mm, Pitch 1.27 mm; Supplier 1: Digi-Key; Supplier Part Number 1: LTC6104HMS8#PBF-ND; Supplier 2: Farnell; Supplier Part Number 2: 1417730; Supplier 3: Newark; Supplier Part Number 3: 56M9956; RoHS: Pb-Free; Type: CSA; Mounting Technology: Surface Mount; ComponentLink1Description: Manufacturer URL; ComponentLink1URL: http://www.linear.com/; ComponentLink2Description: Datasheet; ComponentLink2URL: http://cds.linear.com/docs/en/datasheet/6104f.pdf; ComponentLink3Description: Package Specification; ComponentLink3URL: http://cds.linear.com/docs/en/packaging/05081610_G_SO8.pdf
footprint LT-MS8-8_N (SOP, 8-Leads, Body 3x3mm, Pitch 0.65mm, IPC Medium Density)
footprint LT-MS8-8_L (SOP, 8-Leads, Body 3x3mm, Pitch 0.65mm, IPC High Density)
footprint LT-MS8-8_M (SOP, 8-Leads, Body 3x3mm, Pitch 0.65mm, IPC Low Density)
pins: 1 OUT (out) "Current Output. OUT will source or sink a current that is proportional to the sense voltage into an external resistor. A voltage reference is required to provide the proper positive offset voltage so that the output can (See Datasheet)", 2 NC, 3 NC, 4 V- (power) "Negative Supply (or Ground for Single-Supply Operation).", 5 +INB/VS (in) "The positive input of the internal sense amplifi er B. It also works as the positive supply input. Supply current is drawn through this pin", 6 -INB (in) "The negative input of the internal sense amplifi er B. The internal sense amplifi er will drive -INB to the same potential as +INB when VSENSE is negative.", 7 -INA (in) "The negative input of the internal sense amplifi er A. The internal sense amplifi er will drive -INA to the same potential as +INA when VSENSE is positive. A resistor (RIN) tied from one end of RSENSE to -INA sets the output (See Datasheet)", 8 +INA (in) "The positive input of the internal sense amplifi er A."

## LTC6104HMS8#TRPBF
designator U?
Single Channel, High Voltage, High Side, Bi-Directional Current Sense Operational Amplifier, 0.14 MHz Typical GBW, 4 to 60 V, 8-Pin SOP (MS8-8), High Temperature / Automotive, Pb-Free, Reel; Linear Technology Part Number: LTC6104; Manufacturer: Linear Technology; PartNumber: LTC6104HMS8#TRPBF; Channels (#): 1; GBW (MHz) Typical: 0.14; Is (mA) Typical: 0.45; Vos (mV) Typical: 0.085; Vs Max (V): 60; Vs Min (V): 4; PackageVersion: Rev G; PackageReference: LT-MS8-8; PackageDescription: 8-Lead Plastic Small Outline, Body 3.9 x 4.9 mm, Pitch 1.27 mm; Supplier 1: Digi-Key; Supplier Part Number 1: LTC6104HMS8#TRPBF-ND; Packing: Reel; RoHS: Pb-Free; Type: CSA; Mounting Technology: Surface Mount; ComponentLink1Description: Manufacturer URL; ComponentLink1URL: http://www.linear.com/; ComponentLink2Description: Datasheet; ComponentLink2URL: http://cds.linear.com/docs/en/datasheet/6104f.pdf; ComponentLink3Description: Package Specification; ComponentLink3URL: http://cds.linear.com/docs/en/packaging/05081610_G_SO8.pdf
footprint LT-MS8-8_N (SOP, 8-Leads, Body 3x3mm, Pitch 0.65mm, IPC Medium Density)
footprint LT-MS8-8_L (SOP, 8-Leads, Body 3x3mm, Pitch 0.65mm, IPC High Density)
footprint LT-MS8-8_M (SOP, 8-Leads, Body 3x3mm, Pitch 0.65mm, IPC Low Density)
pins: 1 OUT (out) "Current Output. OUT will source or sink a current that is proportional to the sense voltage into an external resistor. A voltage reference is required to provide the proper positive offset voltage so that the output can (See Datasheet)", 2 NC, 3 NC, 4 V- (power) "Negative Supply (or Ground for Single-Supply Operation).", 5 +INB/VS (in) "The positive input of the internal sense amplifi er B. It also works as the positive supply input. Supply current is drawn through this pin", 6 -INB (in) "The negative input of the internal sense amplifi er B. The internal sense amplifi er will drive -INB to the same potential as +INB when VSENSE is negative.", 7 -INA (in) "The negative input of the internal sense amplifi er A. The internal sense amplifi er will drive -INA to the same potential as +INA when VSENSE is positive. A resistor (RIN) tied from one end of RSENSE to -INA sets the output (See Datasheet)", 8 +INA (in) "The positive input of the internal sense amplifi er A."

## LTC6104IMS8#PBF
designator U?
Single Channel, High Voltage, High Side, Bi-Directional Current Sense Operational Amplifier, 0.14 MHz Typical GBW, 4 to 60 V, 8-Pin SOP (MS8-8), Industrial, Pb-Free; Linear Technology Part Number: LTC6104; Manufacturer: Linear Technology; PartNumber: LTC6104IMS8#PBF; Channels (#): 1; GBW (MHz) Typical: 0.14; Is (mA) Typical: 0.45; Vos (mV) Typical: 0.085; Vs Max (V): 60; Vs Min (V): 4; PackageVersion: Rev G; PackageReference: LT-MS8-8; PackageDescription: 8-Lead Plastic Small Outline, Body 3.9 x 4.9 mm, Pitch 1.27 mm; Supplier 1: Digi-Key; Supplier Part Number 1: LTC6104IMS8#PBF-ND; Supplier 2: Farnell; Supplier Part Number 2: 1417729; Supplier 3: Newark; Supplier Part Number 3: 56M9958; RoHS: Pb-Free; Type: CSA; Mounting Technology: Surface Mount; ComponentLink1Description: Manufacturer URL; ComponentLink1URL: http://www.linear.com/; ComponentLink2Description: Datasheet; ComponentLink2URL: http://cds.linear.com/docs/en/datasheet/6104f.pdf; ComponentLink3Description: Package Specification; ComponentLink3URL: http://cds.linear.com/docs/en/packaging/05081610_G_SO8.pdf
footprint LT-MS8-8_N (SOP, 8-Leads, Body 3x3mm, Pitch 0.65mm, IPC Medium Density)
footprint LT-MS8-8_L (SOP, 8-Leads, Body 3x3mm, Pitch 0.65mm, IPC High Density)
footprint LT-MS8-8_M (SOP, 8-Leads, Body 3x3mm, Pitch 0.65mm, IPC Low Density)
pins: 1 OUT (out) "Current Output. OUT will source or sink a current that is proportional to the sense voltage into an external resistor. A voltage reference is required to provide the proper positive offset voltage so that the output can (See Datasheet)", 2 NC, 3 NC, 4 V- (power) "Negative Supply (or Ground for Single-Supply Operation).", 5 +INB/VS (in) "The positive input of the internal sense amplifi er B. It also works as the positive supply input. Supply current is drawn through this pin", 6 -INB (in) "The negative input of the internal sense amplifi er B. The internal sense amplifi er will drive -INB to the same potential as +INB when VSENSE is negative.", 7 -INA (in) "The negative input of the internal sense amplifi er A. The internal sense amplifi er will drive -INA to the same potential as +INA when VSENSE is positive. A resistor (RIN) tied from one end of RSENSE to -INA sets the output (See Datasheet)", 8 +INA (in) "The positive input of the internal sense amplifi er A."